# Altium integrated library NSC Switcher.IntLib: 916 symbols (part 6 of 23)
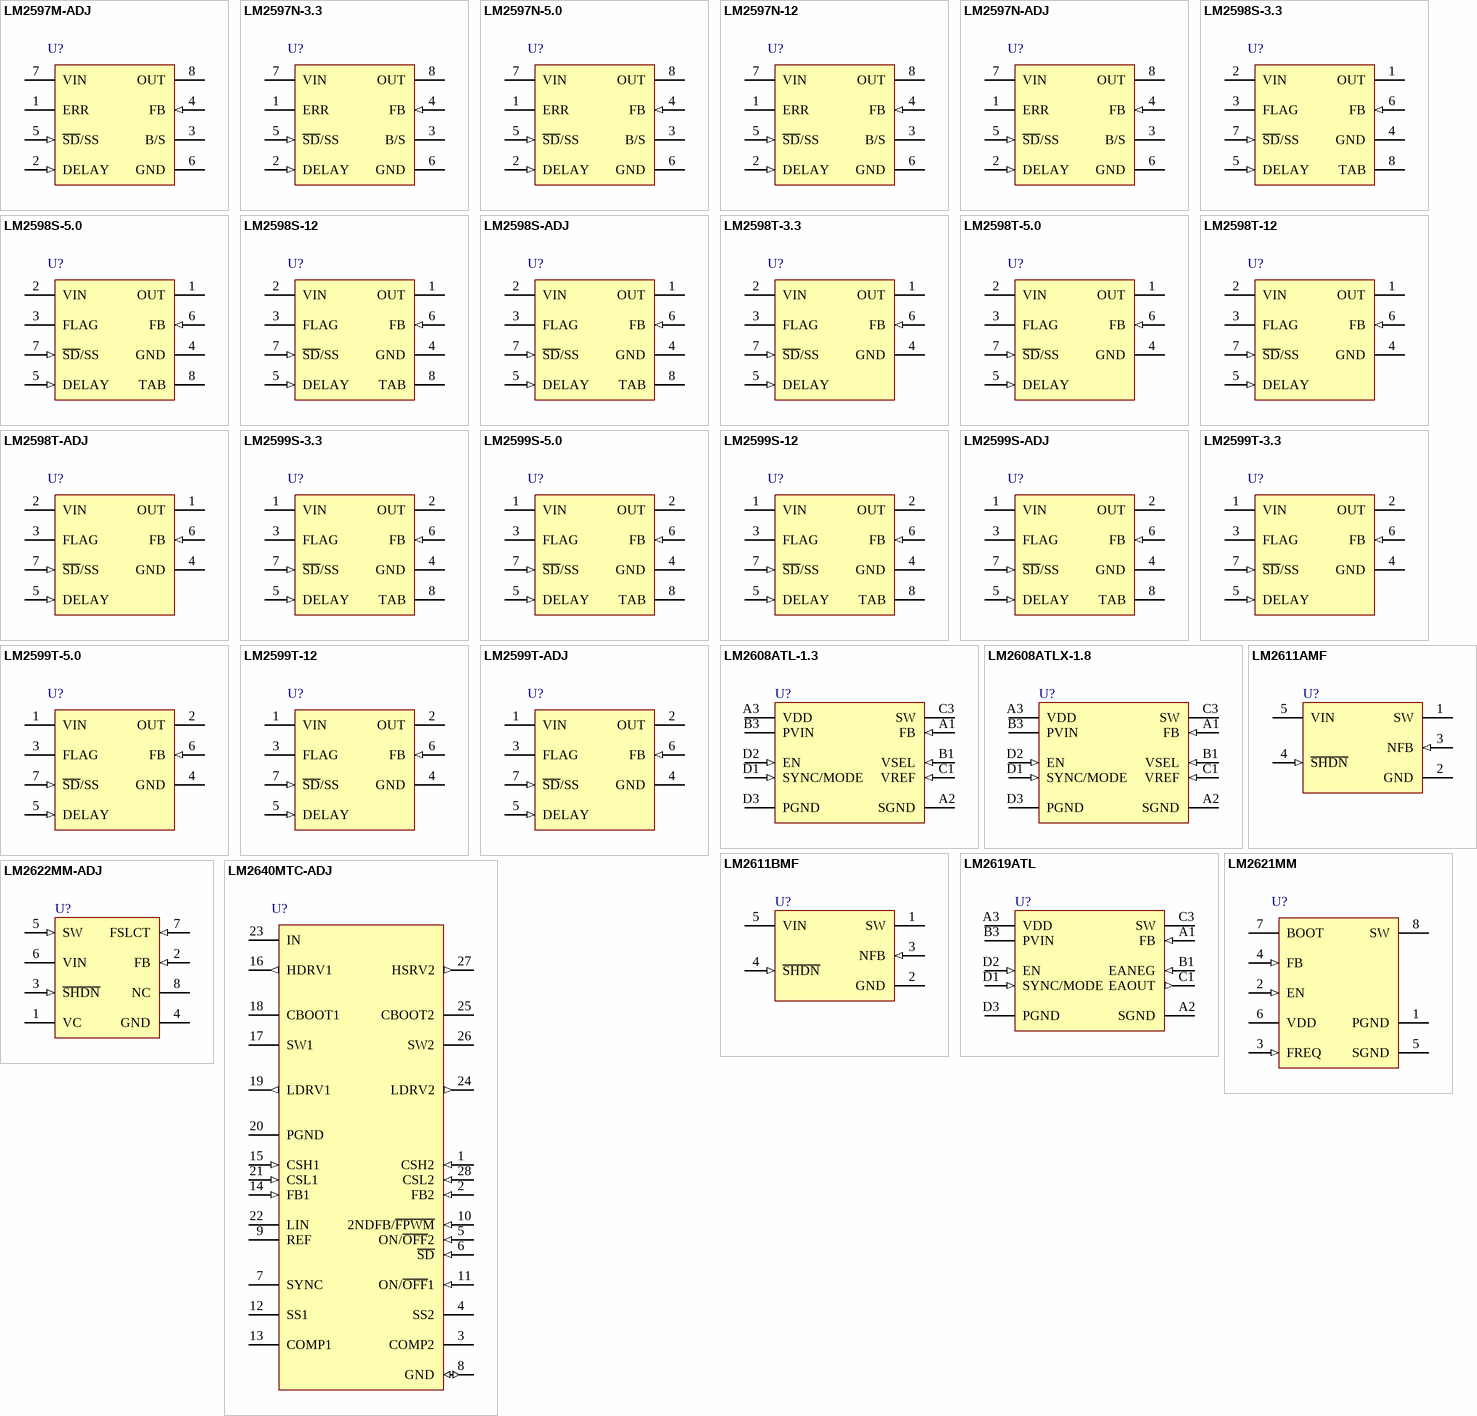
[diagram p33: symbols LM2597M-ADJ to LM2640MTC-ADJ]

## LM2598T-ADJ
designator U?
SIMPLE SWITCHER Power Converter 150 KHz 1A Step-Down Voltage Regulator, with Features; PartNumber: LM2598T-ADJ; Manufacturer: National Semiconductor; PackageTopMarking: NSUZXYTT*LM2598T*-ADJ P+; PowerWise: N; Published: 4-Dec-2008; DatasheetVersion: Jan-2001; PackageVersion: revC, Apr-1999; PackageReference: TA07B; Publisher: Altium Limited; PackageDescription: TO-220, Molded, .400 x .590 x .180in Body, 7 Lead, .050in Pitch, Staggered; CompType: Switcher; RoHS: Y; PinCount: 7; DigiKeyPartNumber: LM2598T-ADJ-ND; Code_JEDEC: TO-220-AB; ComponentLink1Description: LM2598 Datasheet; ComponentLink1URL: http://www.national.com/ds/LM/LM2598.pdf; ComponentLink2Description: LM2598 Web Page; ComponentLink2URL: http://www.national.com/pf/LM/LM2598.html; ComponentLink3Description: TA07B Package Page; ComponentLink3URL: http://www.national.com/packaging/folders/ta07b.html
footprint TA07B (TO, Thru-Hole, Vertical, Heatsink Mounted; 7 Bent Staggered Leads; Pitch 1.27 mm)
pins: 1 OUT (power), 2 VIN (power), 3 FLAG (oc), 4 GND (power), 5 DELAY (in), 6 FB (in), 7 ~{SD}/SS (in)

## LM2599S-3.3
designator U?
SIMPLE SWITCHER Power Converter 150 KHz 3A Step-Down Voltage Regulator with Features; PartNumber: LM2599S-3.3; Manufacturer: National Semiconductor; PackageTopMarking: NSUZXYTT*LM2599S*-3.3 P+; PowerWise: N; Published: 4-Dec-2008; DatasheetVersion: Dec-2000; PackageVersion: revE, Jul-2003; PackageReference: TS7B; Publisher: Altium Limited; PackageDescription: TO-263, Molded, .400 x .390 x .180in Body, 7 Lead, .050in Pitch, Surface Mount; CompType: Switcher; RoHS: O; PinCount: 7; DigiKeyPartNumber: LM2599S-3.3-ND; Code_JEDEC: MO-169-AC; ComponentLink1Description: LM2599 Datasheet; ComponentLink1URL: http://www.national.com/ds/LM/LM2599.pdf; ComponentLink2Description: LM2599 Web Page; ComponentLink2URL: http://www.national.com/pf/LM/LM2599.html; ComponentLink3Description: TS7B Package Page; ComponentLink3URL: http://www.national.com/packaging/folders/ts7b.html
footprint TS7B_N (D2-PAK, 8-Leads, Body 8.6x10.2mm, Pitch 1.27mm, Lead Span 14.1mm, IPC Medium Density)
footprint TS7B_L (D2-PAK, 8-Leads, Body 8.6x10.2mm, Pitch 1.27mm, Lead Span 14.1mm, IPC High Density)
footprint TS7B_M (D2-PAK, 8-Leads, Body 8.6x10.2mm, Pitch 1.27mm, Lead Span 14.1mm, IPC Low Density)
footprint TS7B_M (D2-PAK, 8-Leads, Body 8.6x10.2mm, Pitch 1.27mm, Lead Span 14.1mm, IPC Low Density)
pins: 1 VIN (power), 2 OUT (power), 3 FLAG (oc), 4 GND (power), 5 DELAY (in), 6 FB (in), 7 ~{SD}/SS (in), 8 TAB (power)

## LM2599S-5.0
designator U?
SIMPLE SWITCHER Power Converter 150 KHz 3A Step-Down Voltage Regulator with Features; PartNumber: LM2599S-5.0; Manufacturer: National Semiconductor; PackageTopMarking: NSUZXYTT*LM2599S*-5.0 P+; PowerWise: N; Published: 4-Dec-2008; DatasheetVersion: Dec-2000; PackageVersion: revE, Jul-2003; PackageReference: TS7B; Publisher: Altium Limited; PackageDescription: TO-263, Molded, .400 x .390 x .180in Body, 7 Lead, .050in Pitch, Surface Mount; CompType: Switcher; RoHS: Y; PinCount: 7; DigiKeyPartNumber: LM2599S-5.0-ND; Code_JEDEC: MO-169-AC; ComponentLink1Description: LM2599 Datasheet; ComponentLink1URL: http://www.national.com/ds/LM/LM2599.pdf; ComponentLink2Description: LM2599 Web Page; ComponentLink2URL: http://www.national.com/pf/LM/LM2599.html; ComponentLink3Description: TS7B Package Page; ComponentLink3URL: http://www.national.com/packaging/folders/ts7b.html
footprint TS7B_N (D2-PAK, 8-Leads, Body 8.6x10.2mm, Pitch 1.27mm, Lead Span 14.1mm, IPC Medium Density)
footprint TS7B_L (D2-PAK, 8-Leads, Body 8.6x10.2mm, Pitch 1.27mm, Lead Span 14.1mm, IPC High Density)
footprint TS7B_M (D2-PAK, 8-Leads, Body 8.6x10.2mm, Pitch 1.27mm, Lead Span 14.1mm, IPC Low Density)
footprint TS7B_M (D2-PAK, 8-Leads, Body 8.6x10.2mm, Pitch 1.27mm, Lead Span 14.1mm, IPC Low Density)
pins: 1 VIN (power), 2 OUT (power), 3 FLAG (oc), 4 GND (power), 5 DELAY (in), 6 FB (in), 7 ~{SD}/SS (in), 8 TAB (power)

## LM2599S-12
designator U?
SIMPLE SWITCHER Power Converter 150 KHz 3A Step-Down Voltage Regulator with Features; PartNumber: LM2599S-12; Manufacturer: National Semiconductor; PackageTopMarking: NSUZXYTT*LM2599S*-12 P+; PowerWise: N; Published: 4-Dec-2008; DatasheetVersion: Dec-2000; PackageVersion: revE, Jul-2003; PackageReference: TS7B; Publisher: Altium Limited; PackageDescription: TO-263, Molded, .400 x .390 x .180in Body, 7 Lead, .050in Pitch, Surface Mount; CompType: Switcher; RoHS: O; PinCount: 7; DigiKeyPartNumber: LM2599S-12-ND; Code_JEDEC: MO-169-AC; ComponentLink1Description: LM2599 Datasheet; ComponentLink1URL: http://www.national.com/ds/LM/LM2599.pdf; ComponentLink2Description: LM2599 Web Page; ComponentLink2URL: http://www.national.com/pf/LM/LM2599.html; ComponentLink3Description: TS7B Package Page; ComponentLink3URL: http://www.national.com/packaging/folders/ts7b.html
footprint TS7B_N (D2-PAK, 8-Leads, Body 8.6x10.2mm, Pitch 1.27mm, Lead Span 14.1mm, IPC Medium Density)
footprint TS7B_L (D2-PAK, 8-Leads, Body 8.6x10.2mm, Pitch 1.27mm, Lead Span 14.1mm, IPC High Density)
footprint TS7B_M (D2-PAK, 8-Leads, Body 8.6x10.2mm, Pitch 1.27mm, Lead Span 14.1mm, IPC Low Density)
footprint TS7B_M (D2-PAK, 8-Leads, Body 8.6x10.2mm, Pitch 1.27mm, Lead Span 14.1mm, IPC Low Density)
pins: 1 VIN (power), 2 OUT (power), 3 FLAG (oc), 4 GND (power), 5 DELAY (in), 6 FB (in), 7 ~{SD}/SS (in), 8 TAB (power)

## LM2599S-ADJ
designator U?
SIMPLE SWITCHER Power Converter 150 KHz 3A Step-Down Voltage Regulator with Features; PartNumber: LM2599S-ADJ; Manufacturer: National Semiconductor; PackageTopMarking: NSUZXYTT*LM2599S*-ADJ P+; PowerWise: N; Published: 4-Dec-2008; DatasheetVersion: Dec-2000; PackageVersion: revE, Jul-2003; PackageReference: TS7B; Publisher: Altium Limited; PackageDescription: TO-263, Molded, .400 x .390 x .180in Body, 7 Lead, .050in Pitch, Surface Mount; CompType: Switcher; RoHS: O; PinCount: 7; DigiKeyPartNumber: LM2599S-ADJ-ND; Code_JEDEC: MO-169-AC; ComponentLink1Description: LM2599 Datasheet; ComponentLink1URL: http://www.national.com/ds/LM/LM2599.pdf; ComponentLink2Description: LM2599 Web Page; ComponentLink2URL: http://www.national.com/pf/LM/LM2599.html; ComponentLink3Description: TS7B Package Page; ComponentLink3URL: http://www.national.com/packaging/folders/ts7b.html
footprint TS7B_N (D2-PAK, 8-Leads, Body 8.6x10.2mm, Pitch 1.27mm, Lead Span 14.1mm, IPC Medium Density)
footprint TS7B_L (D2-PAK, 8-Leads, Body 8.6x10.2mm, Pitch 1.27mm, Lead Span 14.1mm, IPC High Density)
footprint TS7B_M (D2-PAK, 8-Leads, Body 8.6x10.2mm, Pitch 1.27mm, Lead Span 14.1mm, IPC Low Density)
footprint TS7B_M (D2-PAK, 8-Leads, Body 8.6x10.2mm, Pitch 1.27mm, Lead Span 14.1mm, IPC Low Density)
pins: 1 VIN (power), 2 OUT (power), 3 FLAG (oc), 4 GND (power), 5 DELAY (in), 6 FB (in), 7 ~{SD}/SS (in), 8 TAB (power)

## LM2599T-3.3
designator U?
SIMPLE SWITCHER Power Converter 150 KHz 3A Step-Down Voltage Regulator with Features; PartNumber: LM2599T-3.3; Manufacturer: National Semiconductor; PackageTopMarking: NSUZXYTT*LM2599T*-3.3 P+; PowerWise: N; Published: 4-Dec-2008; DatasheetVersion: Dec-2000; PackageVersion: revC, Apr-1999; PackageReference: TA07B; Publisher: Altium Limited; PackageDescription: TO-220, Molded, .400 x .590 x .180in Body, 7 Lead, .050in Pitch, Staggered; CompType: Switcher; RoHS: Y; PinCount: 7; DigiKeyPartNumber: LM2599T-3.3-ND; Code_JEDEC: TO-220-AB; ComponentLink1Description: LM2599 Datasheet; ComponentLink1URL: http://www.national.com/ds/LM/LM2599.pdf; ComponentLink2Description: LM2599 Web Page; ComponentLink2URL: http://www.national.com/pf/LM/LM2599.html; ComponentLink3Description: TA07B Package Page; ComponentLink3URL: http://www.national.com/packaging/folders/ta07b.html
footprint TA07B (TO, Thru-Hole, Vertical, Heatsink Mounted; 7 Bent Staggered Leads; Pitch 1.27 mm)
pins: 1 VIN (power), 2 OUT (power), 3 FLAG (oc), 4 GND (power), 5 DELAY (in), 6 FB (in), 7 ~{SD}/SS (in)

## LM2599T-5.0
designator U?
SIMPLE SWITCHER Power Converter 150 KHz 3A Step-Down Voltage Regulator with Features; PartNumber: LM2599T-5.0; Manufacturer: National Semiconductor; PackageTopMarking: NSUZXYTT*LM2599T*-5.0 P+; PowerWise: N; Published: 4-Dec-2008; DatasheetVersion: Dec-2000; PackageVersion: revC, Apr-1999; PackageReference: TA07B; Publisher: Altium Limited; PackageDescription: TO-220, Molded, .400 x .590 x .180in Body, 7 Lead, .050in Pitch, Staggered; CompType: Switcher; RoHS: O; PinCount: 7; DigiKeyPartNumber: LM2599T-5.0-ND; Code_JEDEC: TO-220-AB; ComponentLink1Description: LM2599 Datasheet; ComponentLink1URL: http://www.national.com/ds/LM/LM2599.pdf; ComponentLink2Description: LM2599 Web Page; ComponentLink2URL: http://www.national.com/pf/LM/LM2599.html; ComponentLink3Description: TA07B Package Page; ComponentLink3URL: http://www.national.com/packaging/folders/ta07b.html
footprint TA07B (TO, Thru-Hole, Vertical, Heatsink Mounted; 7 Bent Staggered Leads; Pitch 1.27 mm)
pins: 1 VIN (power), 2 OUT (power), 3 FLAG (oc), 4 GND (power), 5 DELAY (in), 6 FB (in), 7 ~{SD}/SS (in)

## LM2599T-12
designator U?
SIMPLE SWITCHER Power Converter 150 KHz 3A Step-Down Voltage Regulator with Features; PartNumber: LM2599T-12; Manufacturer: National Semiconductor; PackageTopMarking: NSUZXYTT*LM2599T*-12 P+; PowerWise: N; Published: 4-Dec-2008; DatasheetVersion: Dec-2000; PackageVersion: revC, Apr-1999; PackageReference: TA07B; Publisher: Altium Limited; PackageDescription: TO-220, Molded, .400 x .590 x .180in Body, 7 Lead, .050in Pitch, Staggered; CompType: Switcher; RoHS: Y; PinCount: 7; DigiKeyPartNumber: LM2599T-12-ND; Code_JEDEC: TO-220-AB; ComponentLink1Description: LM2599 Datasheet; ComponentLink1URL: http://www.national.com/ds/LM/LM2599.pdf; ComponentLink2Description: LM2599 Web Page; ComponentLink2URL: http://www.national.com/pf/LM/LM2599.html; ComponentLink3Description: TA07B Package Page; ComponentLink3URL: http://www.national.com/packaging/folders/ta07b.html
footprint TA07B (TO, Thru-Hole, Vertical, Heatsink Mounted; 7 Bent Staggered Leads; Pitch 1.27 mm)
pins: 1 VIN (power), 2 OUT (power), 3 FLAG (oc), 4 GND (power), 5 DELAY (in), 6 FB (in), 7 ~{SD}/SS (in)

## LM2599T-ADJ
designator U?
SIMPLE SWITCHER Power Converter 150 KHz 3A Step-Down Voltage Regulator with Features; PartNumber: LM2599T-ADJ; Manufacturer: National Semiconductor; PackageTopMarking: NSUZXYTT*LM2599T*-ADJ P+; PowerWise: N; Published: 4-Dec-2008; DatasheetVersion: Dec-2000; PackageVersion: revC, Apr-1999; PackageReference: TA07B; Publisher: Altium Limited; PackageDescription: TO-220, Molded, .400 x .590 x .180in Body, 7 Lead, .050in Pitch, Staggered; CompType: Switcher; RoHS: O; PinCount: 7; DigiKeyPartNumber: LM2599T-ADJ-ND; Code_JEDEC: TO-220-AB; ComponentLink1Description: LM2599 Datasheet; ComponentLink1URL: http://www.national.com/ds/LM/LM2599.pdf; ComponentLink2Description: LM2599 Web Page; ComponentLink2URL: http://www.national.com/pf/LM/LM2599.html; ComponentLink3Description: TA07B Package Page; ComponentLink3URL: http://www.national.com/packaging/folders/ta07b.html
footprint TA07B (TO, Thru-Hole, Vertical, Heatsink Mounted; 7 Bent Staggered Leads; Pitch 1.27 mm)
pins: 1 VIN (power), 2 OUT (power), 3 FLAG (oc), 4 GND (power), 5 DELAY (in), 6 FB (in), 7 ~{SD}/SS (in)

## LM2608ATL-1.3
designator U?
400mA Sub-miniature, High Efficiency, Programmable DC-DC Converter with Linear Mode; PartNumber: LM2608ATL-1.3; Manufacturer: National Semiconductor; CompType: Switcher; PackageTopMarking: XYTT*I S43A; Published: 4-Dec-2008; DatasheetVersion: Dec-2002; PackageVersion: revD, Mar-2004; PackageReference: TLP108WA; Publisher: Altium Limited; PackageDescription: Thin Micro SMD, 10 Bump (Large), Periperal, 0.5mm Pitch; RoHS: Y; PinCount: 10; DigiKeyPartNumber: LM2608ATL-1.3CT-ND; Code_JEDEC: MO-211-BD; ComponentLink1Description: LM2608 Datasheet; ComponentLink1URL: http://www.national.com/ds/LM/LM2608.pdf; ComponentLink2Description: LM2608 Web Page; ComponentLink2URL: http://www.national.com/pf/LM/LM2608.html; ComponentLink3Description: TLP108WA Package Drawing; ComponentLink3URL: http://www.national.com/packaging/folders/tlp108wa.html
footprint TLP108WA (Micro SMD, 10-Leads, Body 2.5x2.25mm, Pitch 0.5mm, NSC Recommended)
pins: A1 FB (in), A2 SGND (power), A3 VDD (power), B1 VSEL (in), B3 PVIN (power), C1 VREF (in), C3 SW (power), D1 SYNC/MODE (in), D2 EN (in), D3 PGND (power)

## LM2608ATLX-1.8
designator U?
400mA Sub-miniature, High Efficiency, Programmable DC-DC Converter with Linear Mode; PartNumber: LM2608ATLX-1.8; Manufacturer: National Semiconductor; CompType: Switcher; PackageTopMarking: XYTT*I S44A; PowerWise: N; Published: 4-Dec-2008; DatasheetVersion: Dec-2002; PackageVersion: revD, Mar-2004; PackageReference: TLP108WA; Publisher: Altium Limited; PackageDescription: Thin Micro SMD, 10 Bump (Large), Periperal, 0.5mm Pitch; RoHS: Y; PinCount: 10; DigiKeyPartNumber: LM2608ATLX-1.8-ND; Code_JEDEC: MO-211-BD; ComponentLink1Description: LM2608 Datasheet; ComponentLink1URL: http://www.national.com/ds/LM/LM2608.pdf; ComponentLink2Description: LM2608 Web Page; ComponentLink2URL: http://www.national.com/pf/LM/LM2608.html; ComponentLink3Description: TLP108WA Package Drawing; ComponentLink3URL: http://www.national.com/packaging/folders/tlp108wa.html
footprint TLP108WA (Micro SMD, 10-Leads, Body 2.5x2.25mm, Pitch 0.5mm, NSC Recommended)
pins: A1 FB (in), A2 SGND (power), A3 VDD (power), B1 VSEL (in), B3 PVIN (power), C1 VREF (in), C3 SW (power), D1 SYNC/MODE (in), D2 EN (in), D3 PGND (power)

## LM2611AMF
designator U?
1.4MHz Cuk Converter; PartNumber: LM2611AMF; Manufacturer: National Semiconductor; CompType: Switcher; PackageTopMarking: S40A*XTT; PowerWise: N; Published: 4-Dec-2008; DatasheetVersion: Jan-2005; PackageVersion: revD, Aug-2008; PackageReference: MF05A; Publisher: Altium Limited; PackageDescription: Molded SOT-23, .115 x .063 x .040 in Body, 5 Lead, .0375 in Pitch; RoHS: O; PinCount: 5; DigiKeyPartNumber: LM2611AMFCT-ND; ComponentLink1Description: LM2611 Datasheet; ComponentLink1URL: http://www.national.com/ds/LM/LM2611.pdf; ComponentLink2Description: LM2611 Web Page; ComponentLink2URL: http://www.national.com/pf/LM/LM2611.html; ComponentLink3Description: MF05A Package Page; ComponentLink3URL: http://www.national.com/packaging/folders/mf05a.html
footprint MF05A_N (SOT23, 5-Leads, Body 2.9x1.6mm, Pitch 0.95mm, Lead Span 2.8mm, IPC Medium Density)
footprint MF05A_L (SOT23, 5-Leads, Body 2.9x1.6mm, Pitch 0.95mm, Lead Span 2.8mm, IPC High Density)
footprint MF05A_M (SOT23, 5-Leads, Body 2.9x1.6mm, Pitch 0.95mm, Lead Span 2.8mm, IPC Low Density)
pins: 1 SW (power), 2 GND (power), 3 NFB (in), 4 ~{SHDN} (in), 5 VIN (power)

## LM2611BMF
designator U?
1.4MHz Cuk Converter; PartNumber: LM2611BMF; Manufacturer: National Semiconductor; CompType: Switcher; PackageTopMarking: S40B*XTT; PowerWise: N; Published: 4-Dec-2008; DatasheetVersion: Jan-2005; PackageVersion: revD, Aug-2008; PackageReference: MF05A; Publisher: Altium Limited; PackageDescription: Molded SOT-23, .115 x .063 x .040 in Body, 5 Lead, .0375 in Pitch; RoHS: Y; PinCount: 5; DigiKeyPartNumber: LM2611BMFCT-ND; ComponentLink1Description: LM2611 Datasheet; ComponentLink1URL: http://www.national.com/ds/LM/LM2611.pdf; ComponentLink2Description: LM2611 Web Page; ComponentLink2URL: http://www.national.com/pf/LM/LM2611.html; ComponentLink3Description: MF05A Package Page; ComponentLink3URL: http://www.national.com/packaging/folders/mf05a.html
footprint MF05A_N (SOT23, 5-Leads, Body 2.9x1.6mm, Pitch 0.95mm, Lead Span 2.8mm, IPC Medium Density)
footprint MF05A_L (SOT23, 5-Leads, Body 2.9x1.6mm, Pitch 0.95mm, Lead Span 2.8mm, IPC High Density)
footprint MF05A_M (SOT23, 5-Leads, Body 2.9x1.6mm, Pitch 0.95mm, Lead Span 2.8mm, IPC Low Density)
pins: 1 SW (power), 2 GND (power), 3 NFB (in), 4 ~{SHDN} (in), 5 VIN (power)

## LM2619ATL
designator U?
500mA Sub-Miniature Step-Down DC-DC Converter; PartNumber: LM2619ATL; Manufacturer: National Semiconductor; CompType: Switcher; PackageTopMarking: XYTT*I S76A; Published: 4-Dec-2008; DatasheetVersion: Oct-2003; PackageVersion: revD, Mar-2004; PackageReference: TLP108WA; Publisher: Altium Limited; PackageDescription: Thin Micro SMD, 10 Bump (Large), Periperal, 0.5mm Pitch; RoHS: O; PinCount: 10; DigiKeyPartNumber: LM2619ATLCT-ND; Code_JEDEC: MO-211-BD; ComponentLink1Description: LM2619 Datasheet; ComponentLink1URL: http://www.national.com/ds/LM/LM2619.pdf; ComponentLink2Description: LM2619 Web Page; ComponentLink2URL: http://www.national.com/pf/LM/LM2619.html; ComponentLink3Description: TLP108WA Package Drawing; ComponentLink3URL: http://www.national.com/packaging/folders/tlp108wa.html
footprint TLP108WA (Micro SMD, 10-Leads, Body 2.5x2.25mm, Pitch 0.5mm, NSC Recommended)
pins: A1 FB (in), A2 SGND (power), A3 VDD (power), B1 EANEG (in), B3 PVIN (power), C1 EAOUT (out), C3 SW (power), D1 SYNC/MODE (in), D2 EN (in), D3 PGND (power)

## LM2621MM
designator U?
Low Input Voltage, Step-Up DC-DC; PartNumber: LM2621MM; Manufacturer: National Semiconductor; CompType: Switcher; PackageTopMarking: ZXTT*S06A; PowerWise: N; Published: 4-Dec-2008; DatasheetVersion: Mar-2005; PackageVersion: revF, Apr-2008; PackageReference: MUA08A; Publisher: Altium Limited; PackageDescription: MINI SOIC, .118 x .118 x .034in, 8 Lead, .0256in Pitch; RoHS: O; PinCount: 8; DigiKeyPartNumber: LM2621MMCT-ND; Code_JEDEC: MO-187-AA; ComponentLink1Description: LM2621 Datasheet; ComponentLink1URL: http://www.national.com/ds/LM/LM2621.pdf; ComponentLink2Description: LM2621 Web Page; ComponentLink2URL: http://www.national.com/pf/LM/LM2621.html; ComponentLink3Description: MUA08A Package Page; ComponentLink3URL: http://www.national.com/packaging/folders/mua08a.html
footprint MUA08A_N (TSOP, 8-Leads, Body 3x3mm, Pitch 0.65mm, IPC Medium Density)
footprint MUA08A_L (TSOP, 8-Leads, Body 3x3mm, Pitch 0.65mm, IPC High Density)
footprint MUA08A_M (TSOP, 8-Leads, Body 3x3mm, Pitch 0.65mm, IPC Low Density)
pins: 1 PGND (power), 2 EN (in), 3 FREQ (in), 4 FB (in), 5 SGND (power), 6 VDD (power), 7 BOOT, 8 SW (power)

## LM2622MM-ADJ
designator U?
600kHz/1.3MHz Step-up PWM DC/DC Converter; PartNumber: LM2622MM-ADJ; Manufacturer: National Semiconductor; CompType: Switcher; PackageTopMarking: ZXTT*S18B; PowerWise: N; Published: 4-Dec-2008; DatasheetVersion: May-2004; PackageVersion: revF, Apr-2008; PackageReference: MUA08A; Publisher: Altium Limited; PackageDescription: MINI SOIC, .118 x .118 x .034in, 8 Lead, .0256in Pitch; RoHS: Y; PinCount: 8; DigiKeyPartNumber: LM2622MM-ADJCT-ND; Code_JEDEC: MO-187-AA; ComponentLink1Description: LM2622 Datasheet; ComponentLink1URL: http://www.national.com/ds/LM/LM2622.pdf; ComponentLink2Description: LM2622 Web Page; ComponentLink2URL: http://www.national.com/pf/LM/LM2622.html; ComponentLink3Description: MUA08A Package Drawing; ComponentLink3URL: http://www.national.com/packaging/folders/mua08a.html
footprint MUA08A_N (TSOP, 8-Leads, Body 3x3mm, Pitch 0.65mm, IPC Medium Density)
footprint MUA08A_L (TSOP, 8-Leads, Body 3x3mm, Pitch 0.65mm, IPC High Density)
footprint MUA08A_M (TSOP, 8-Leads, Body 3x3mm, Pitch 0.65mm, IPC Low Density)
pins: 1 VC (power), 2 FB (in), 3 ~{SHDN} (in), 4 GND (power), 5 SW (in), 6 VIN (power), 7 FSLCT (in), 8 NC

## LM2640MTC-ADJ
designator U?
Dual Adjustable Step-Down Switching Power Supply Controller; PartNumber: LM2640MTC-ADJ; Manufacturer: National Semiconductor; CompType: Switcher; PackageTopMarking: NSUZXYTT*LM2640M*TC-ADJ; PowerWise: N; Published: 4-Dec-2008; DatasheetVersion: May-2001; PackageVersion: revD, Jan-2005; PackageReference: MTC28; Publisher: Altium Limited; PackageDescription: Molded TSSOP, Jedec, 9.7 x 4.4 x 0.9mm Body, 28 Lead, 0.65mm Pitch; RoHS: Y; PinCount: 28; DigiKeyPartNumber: LM2640MTC-ADJ-ND; Code_JEDEC: MO-153-AE; ComponentLink1Description: LM2640 Datasheet; ComponentLink1URL: http://www.national.com/ds/LM/LM2640.pdf; ComponentLink2Description: LM2640 Web Page; ComponentLink2URL: http://www.national.com/pf/LM/LM2640.html; ComponentLink3Description: MTC28 Package Page; ComponentLink3URL: http://www.national.com/packaging/folders/mtc28.html
footprint MTC28_N (TSOP, 28-Leads, Body 9.7x4.4mm, Pitch 0.65mm, IPC Medium Density)
footprint MTC28_L (TSOP, 28-Leads, Body 9.7x4.4mm, Pitch 0.65mm, IPC High Density)
footprint MTC28_M (TSOP, 28-Leads, Body 9.7x4.4mm, Pitch 0.65mm, IPC Low Density)
pins: 1 CSH2 (in), 2 FB2 (in), 3 COMP2, 4 SS2, 5 ON/~{OFF}2 (in), 6 ~{SD} (in), 7 SYNC, 8 GND (io), 9 REF (power), 10 2NDFB/~{FPWM} (in), 11 ON/~{OFF}1 (in), 12 SS1, 13 COMP1, 14 FB1 (in), 15 CSH1 (in), 16 HDRV1 (out), 17 SW1 (power), 18 CBOOT1, 19 LDRV1 (out), 20 PGND (power), 21 CSL1 (in), 22 LIN (power), 23 IN (power), 24 LDRV2 (out), 25 CBOOT2, 26 SW2 (power), 27 HSRV2 (out), 28 CSL2 (in)

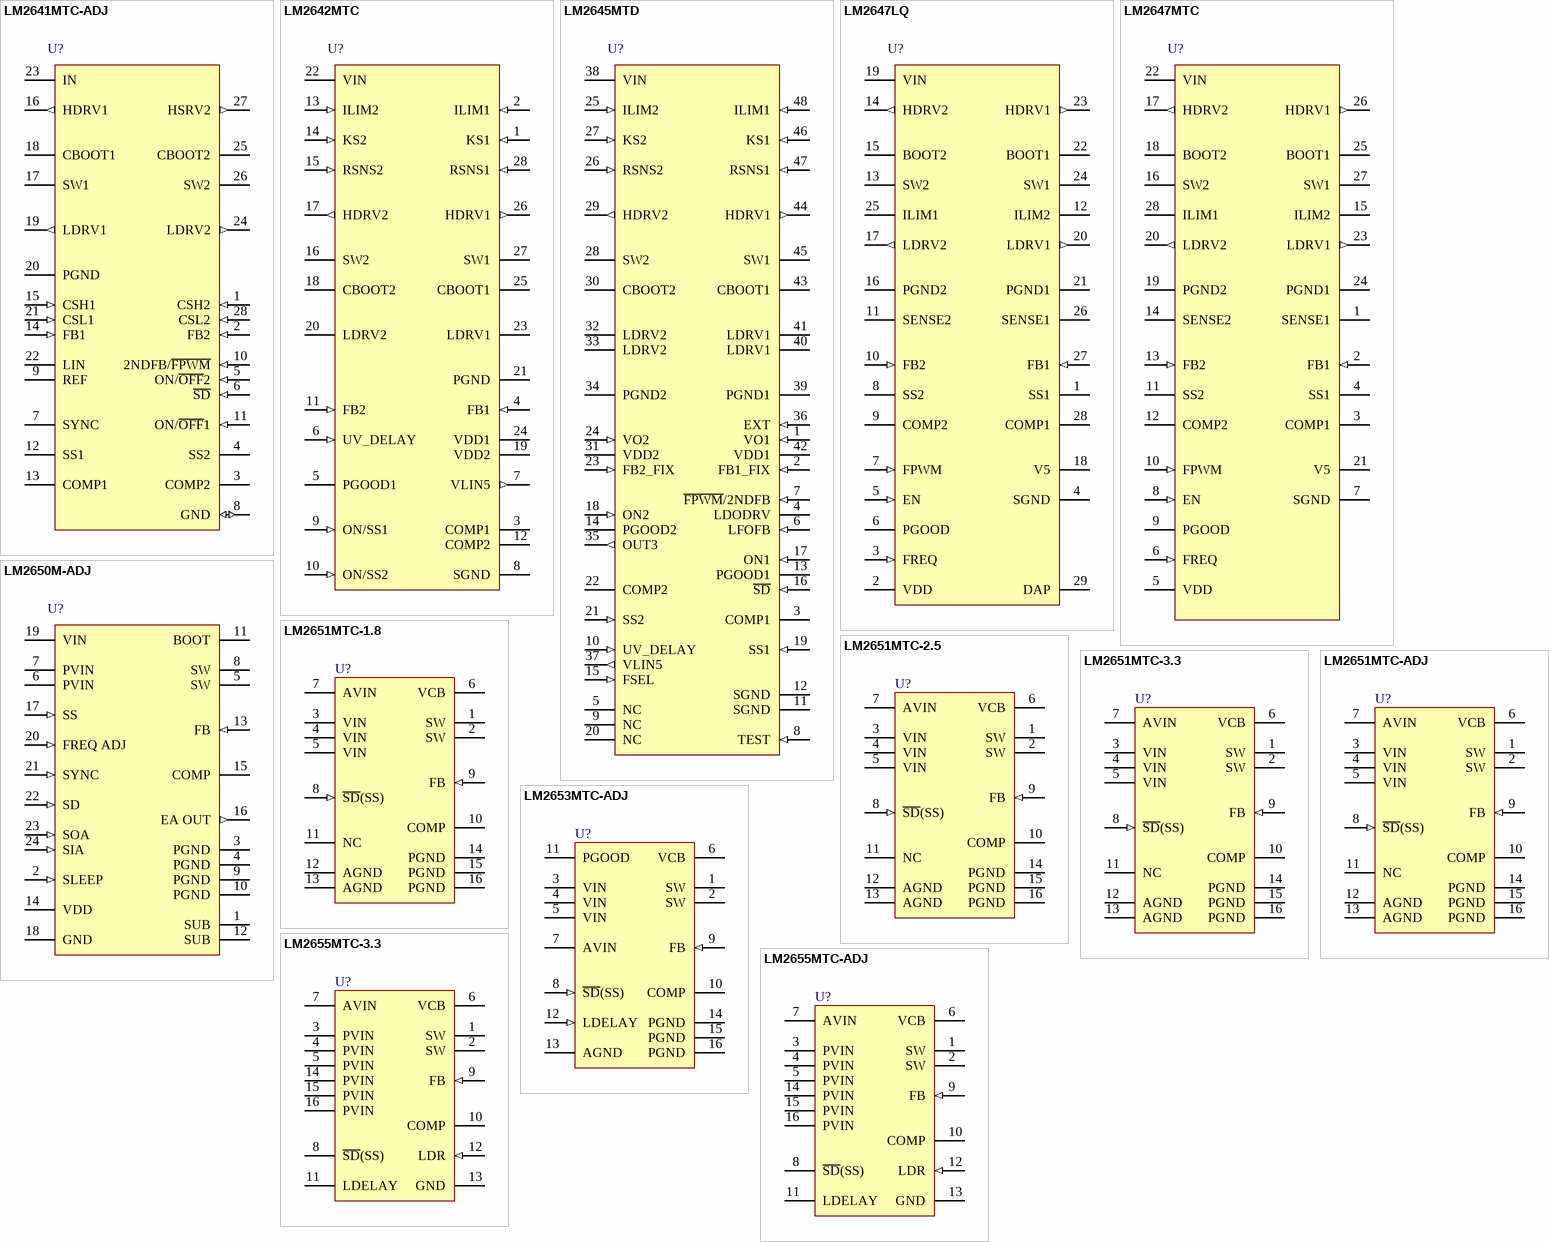
[diagram p6: symbols LM2641MTC-ADJ to LM2655MTC-ADJ]

## LM2641MTC-ADJ
designator U?
Dual Adjustable Step-Down Switching Power Supply Controller; PartNumber: LM2641MTC-ADJ; Manufacturer: National Semiconductor; CompType: Switcher; PackageTopMarking: NSUZXYTT*LM2641M*TC-ADJ; PowerWise: N; Published: 4-Dec-2008; DatasheetVersion: May-2001; PackageVersion: revD, Jan-2005; PackageReference: MTC28; Publisher: Altium Limited; PackageDescription: Molded TSSOP, Jedec, 9.7 x 4.4 x 0.9mm Body, 28 Lead, 0.65mm Pitch; RoHS: O; PinCount: 28; DigiKeyPartNumber: LM2641MTC-ADJ-ND; Code_JEDEC: MO-153-AE; ComponentLink1Description: LM2641 Datasheet; ComponentLink1URL: http://www.national.com/ds/LM/LM2641.pdf; ComponentLink2Description: LM2641 Web Page; ComponentLink2URL: http://www.national.com/pf/LM/LM2641.html; ComponentLink3Description: MTC28 Package Page; ComponentLink3URL: http://www.national.com/packaging/folders/mtc28.html
footprint MTC28_N (TSOP, 28-Leads, Body 9.7x4.4mm, Pitch 0.65mm, IPC Medium Density)
footprint MTC28_L (TSOP, 28-Leads, Body 9.7x4.4mm, Pitch 0.65mm, IPC High Density)
footprint MTC28_M (TSOP, 28-Leads, Body 9.7x4.4mm, Pitch 0.65mm, IPC Low Density)
pins: 1 CSH2 (in), 2 FB2 (in), 3 COMP2, 4 SS2, 5 ON/~{OFF}2 (in), 6 ~{SD} (in), 7 SYNC, 8 GND (io), 9 REF (power), 10 2NDFB/~{FPWM} (in), 11 ON/~{OFF}1 (in), 12 SS1, 13 COMP1, 14 FB1 (in), 15 CSH1 (in), 16 HDRV1 (out), 17 SW1 (power), 18 CBOOT1, 19 LDRV1 (out), 20 PGND (power), 21 CSL1 (in), 22 LIN (power), 23 IN (power), 24 LDRV2 (out), 25 CBOOT2, 26 SW2 (power), 27 HSRV2 (out), 28 CSL2 (in)

## LM2642MTC
designator U?
Two-Phase Synchronous Step-Down Switching Controller; PartNumber: LM2642MTC; Manufacturer: National Semiconductor; CompType: Switcher; PackageTopMarking: NSUZXYTT*LM2642MTC; PowerWise: N; Published: 4-Dec-2008; DatasheetVersion: Feb-2006; PackageVersion: revD, Jan-2005; PackageReference: MTC28; Publisher: Altium Limited; PackageDescription: Molded TSSOP, Jedec, 9.7 x 4.4 x 0.9mm Body, 28 Lead, 0.65mm Pitch; RoHS: O; PinCount: 28; DigiKeyPartNumber: LM2642MTC-ND; Code_JEDEC: MO-153-AE; ComponentLink1Description: LM2642 Datasheet; ComponentLink1URL: http://www.national.com/ds/LM/LM2642.pdf; ComponentLink2Description: LM2642 Web Page; ComponentLink2URL: http://www.national.com/pf/LM/LM2642.html; ComponentLink3Description: MTC28 Package Page; ComponentLink3URL: http://www.national.com/packaging/folders/mtc28.html
footprint MTC28_N (TSOP, 28-Leads, Body 9.7x4.4mm, Pitch 0.65mm, IPC Medium Density)
footprint MTC28_L (TSOP, 28-Leads, Body 9.7x4.4mm, Pitch 0.65mm, IPC High Density)
footprint MTC28_M (TSOP, 28-Leads, Body 9.7x4.4mm, Pitch 0.65mm, IPC Low Density)
pins: 1 KS1 (in), 2 ILIM1 (in), 3 COMP1, 4 FB1 (in), 5 PGOOD1 (oc), 6 UV_DELAY (in), 7 VLIN5 (out), 8 SGND (power), 9 ON/SS1 (in), 10 ON/SS2 (in), 11 FB2 (in), 12 COMP2, 13 ILIM2 (in), 14 KS2 (in), 15 RSNS2 (in), 16 SW2 (power), 17 HDRV2 (out), 18 CBOOT2, 19 VDD2 (power), 20 LDRV2 (power), 21 PGND (power), 22 VIN (power), 23 LDRV1 (power), 24 VDD1 (power), 25 CBOOT1, 26 HDRV1 (out), 27 SW1 (power), 28 RSNS1 (in)

## LM2645MTD
designator U?
Advanced Two-Phase Switching Controller With Two Linear Outputs; PartNumber: LM2645MTD; Manufacturer: National Semiconductor; CompType: Switcher; PackageTopMarking: NSUZXYTT*LM2645MTD; PowerWise: N; Published: 4-Dec-2008; DatasheetVersion: Apr-2005; PackageVersion: revE, Apr-2003; PackageReference: MTD48; Publisher: Altium Limited; PackageDescription: Molded TSSOP, Jedec, 12.5 x 6.1 x 0.9mm Body, 48 Lead, 0.50mm Pitch; RoHS: Y; PinCount: 48; DigiKeyPartNumber: LM2645MTD-ND; Code_JEDEC: MO-153-ED; ComponentLink1Description: LM2645 Datasheet; ComponentLink1URL: http://www.national.com/ds/LM/LM2645.pdf; ComponentLink2Description: LM2645 Web Page; ComponentLink2URL: http://www.national.com/pf/LM/LM2645.html; ComponentLink3Description: MTD48 Package Page; ComponentLink3URL: http://www.national.com/packaging/folders/mtd48.html
footprint MTD48_N (TSSOP, 48-Leads, Body 12.5x6.1mm, Pitch 0.5mm, IPC Medium Density)
footprint MTD48_L (TSSOP, 48-Leads, Body 12.5x6.1mm, Pitch 0.5mm, IPC High Density)
footprint MTD48_M (TSSOP, 48-Leads, Body 12.5x6.1mm, Pitch 0.5mm, IPC Low Density)
pins: 1 VO1 (in), 2 FB1_FIX (in), 3 COMP1, 4 LDODRV (oc), 5 NC, 6 LFOFB (in), 7 ~{FPWM}/2NDFB (in), 8 TEST (in), 9 NC, 10 UV_DELAY (in), 11 SGND (power), 12 SGND (power), 13 PGOOD1 (oc), 14 PGOOD2 (oc), 15 FSEL (in), 16 ~{SD} (in), 17 ON1 (in), 18 ON2 (in), 19 SS1 (in), 20 NC, 21 SS2 (in), 22 COMP2, 23 FB2_FIX (in), 24 VO2 (in), 25 ILIM2 (in), 26 RSNS2 (in), 27 KS2 (in), 28 SW2 (power), 29 HDRV2 (out), 30 CBOOT2, 31 VDD2 (power), 32 LDRV2 (power), 33 LDRV2 (power), 34 PGND2 (power), 35 OUT3 (out), 36 EXT (in), 37 VLIN5 (out), 38 VIN (power), 39 PGND1 (power), 40 LDRV1 (power), 41 LDRV1 (power), 42 VDD1 (power), 43 CBOOT1, 44 HDRV1 (out), 45 SW1 (power), 46 KS1 (in), 47 RSNS1 (in), 48 ILIM1 (in)

## LM2647LQ
designator U?
Dual Synchronous Buck Regulator Controller; PartNumber: LM2647LQ; Manufacturer: National Semiconductor; CompType: Switcher; PackageTopMarking: NS*UZXYTT*LM2647; PowerWise: N; Published: 4-Dec-2008; DatasheetVersion: Jun-2005; PackageVersion: revB, Jul-2001; PackageReference: LQA28A; Publisher: Altium Limited; PackageDescription: LLP, Plastic, Quad, 5 x 5 x 0.75mm Body, 28 Lead, 0.5mm Pitch; RoHS: Y; PinCount: 28; DigiKeyPartNumber: LM2647LQCT-ND; Code_JEDEC: MO-220-WHHD-1; ComponentLink1Description: LM2647 Datasheet; ComponentLink1URL: http://www.national.com/ds/LM/LM2647.pdf; ComponentLink2Description: LM2647 Web Page; ComponentLink2URL: http://www.national.com/pf/LM/LM2647.html; ComponentLink3Description: LQA28A Package Page; ComponentLink3URL: http://www.national.com/packaging/folders/lqa28a.html
footprint LQA28A (PQFN, 28-Leads, Body 5x5mm, Pitch 0.5mm, NSC Recommended)
pins: 1 SS1, 2 VDD (power), 3 FREQ (in), 4 SGND (power), 5 EN (in), 6 PGOOD (oc), 7 FPWM (in), 8 SS2, 9 COMP2, 10 FB2 (in), 11 SENSE2, 12 ILIM2, 13 SW2 (power), 14 HDRV2 (out), 15 BOOT2, 16 PGND2 (power), 17 LDRV2 (out), 18 V5 (power), 19 VIN (power), 20 LDRV1 (out), 21 PGND1 (power), 22 BOOT1, 23 HDRV1 (out), 24 SW1 (power), 25 ILIM1, 26 SENSE1, 27 FB1 (in), 28 COMP1, 29 DAP (power)

## LM2647MTC
designator U?
Dual Synchronous Buck Regulator Controller; PartNumber: LM2647MTC; Manufacturer: National Semiconductor; CompType: Switcher; PackageTopMarking: NSUZXYTT*LM2647*MTC; PowerWise: N; Published: 4-Dec-2008; DatasheetVersion: Jun-2005; PackageVersion: revD, Jan-2005; PackageReference: MTC28; Publisher: Altium Limited; PackageDescription: Molded TSSOP, Jedec, 9.7 x 4.4 x 0.9mm Body, 28 Lead, 0.65mm Pitch; RoHS: Y; PinCount: 28; DigiKeyPartNumber: LM2647MTC-ND; Code_JEDEC: MO-153-AE; ComponentLink1Description: LM2647 Datasheet; ComponentLink1URL: http://www.national.com/ds/LM/LM2647.pdf; ComponentLink2Description: LM2647 Web Page; ComponentLink2URL: http://www.national.com/pf/LM/LM2647.html; ComponentLink3Description: MTC28 Package Page; ComponentLink3URL: http://www.national.com/packaging/folders/mtc28.html
footprint MTC28_N (TSOP, 28-Leads, Body 9.7x4.4mm, Pitch 0.65mm, IPC Medium Density)
footprint MTC28_L (TSOP, 28-Leads, Body 9.7x4.4mm, Pitch 0.65mm, IPC High Density)
footprint MTC28_M (TSOP, 28-Leads, Body 9.7x4.4mm, Pitch 0.65mm, IPC Low Density)
pins: 1 SENSE1, 2 FB1 (in), 3 COMP1, 4 SS1, 5 VDD (power), 6 FREQ (in), 7 SGND (power), 8 EN (in), 9 PGOOD (oc), 10 FPWM (in), 11 SS2, 12 COMP2, 13 FB2 (in), 14 SENSE2, 15 ILIM2, 16 SW2 (power), 17 HDRV2 (out), 18 BOOT2, 19 PGND2 (power), 20 LDRV2 (out), 21 V5 (power), 22 VIN (power), 23 LDRV1 (out), 24 PGND1 (power), 25 BOOT1, 26 HDRV1 (out), 27 SW1 (power), 28 ILIM1

## LM2650M-ADJ
designator U?
Synchronous Step-Down DC/DC Converter; PartNumber: LM2650M-ADJ; Manufacturer: National Semiconductor; CompType: Switcher; PackageTopMarking: NSUZXYTT*LM2650M*-ADJ; PowerWise: N; Published: 4-Dec-2008; DatasheetVersion: Nov-2005; PackageVersion: revF, Apr-1990; PackageReference: M24B; Publisher: Altium Limited; PackageDescription: Molded Package, S.O., .300in Wide, 24 Lead; RoHS: O; PinCount: 24; DigiKeyPartNumber: LM2650M-ADJ-ND; ComponentLink1Description: LM2650 Datasheet; ComponentLink1URL: http://www.national.com/ds/LM/LM2650.pdf; ComponentLink2Description: LM2650 Web Page; ComponentLink2URL: http://www.national.com/pf/LM/LM2650.html; ComponentLink3Description: M24B Package Page; ComponentLink3URL: http://www.national.com/packaging/folders/m24b.html
footprint M24B_N (SOIC, 24-Leads, Body 15.4x7.5mm, Pitch 1.27mm, IPC Medium Density)
footprint M24B_L (SOIC, 24-Leads, Body 15.4x7.5mm, Pitch 1.27mm, IPC High Density)
footprint M24B_M (SOIC, 24-Leads, Body 15.4x7.5mm, Pitch 1.27mm, IPC Low Density)
pins: 1 SUB (power), 2 SLEEP (in), 3 PGND (power), 4 PGND (power), 5 SW (power), 6 PVIN (power), 7 PVIN (power), 8 SW (power), 9 PGND (power), 10 PGND (power), 11 BOOT, 12 SUB (power), 13 FB (in), 14 VDD (power), 15 COMP, 16 EA OUT (out), 17 SS (in), 18 GND (power), 19 VIN (power), 20 FREQ ADJ (in), 21 SYNC (in), 22 SD (in), 23 SOA (in), 24 SIA (in)

## LM2651MTC-1.8
designator U?
1.5A High Efficiency Switching Regulator; PartNumber: LM2651MTC-1.8; Manufacturer: National Semiconductor; CompType: Switcher; PackageTopMarking: NSZXYTT*2651MTC*-1.8; PowerWise: N; Published: 4-Dec-2008; DatasheetVersion: Apr-2005; PackageVersion: revD, Jun-2003; PackageReference: MTC16; Publisher: Altium Limited; PackageDescription: Molded TSSOP, Jedec, 5 x 4.4 x 0.9mm Body, 16 Lead, 0.65mm Pitch; RoHS: Y; PinCount: 16; DigiKeyPartNumber: LM2651MTC-1.8-ND; Code_JEDEC: MO-153-AB; ComponentLink1Description: LM2651 Datasheet; ComponentLink1URL: http://www.national.com/ds/LM/LM2651.pdf; ComponentLink2Description: LM2651 Web Page; ComponentLink2URL: http://www.national.com/pf/LM/LM2651.html; ComponentLink3Description: MTC16 Package Page; ComponentLink3URL: http://www.national.com/packaging/folders/mtc16.html
footprint MTC16_N (TSOP, 16-Leads, Body 5x4.4mm, Pitch 0.65mm, IPC Medium Density)
footprint MTC16_L (TSOP, 16-Leads, Body 5x4.4mm, Pitch 0.65mm, IPC High Density)
footprint MTC16_M (TSOP, 16-Leads, Body 5x4.4mm, Pitch 0.65mm, IPC Low Density)
pins: 1 SW (power), 2 SW (power), 3 VIN (power), 4 VIN (power), 5 VIN (power), 6 VCB, 7 AVIN (power), 8 ~{SD}(SS) (in), 9 FB (in), 10 COMP, 11 NC, 12 AGND (power), 13 AGND (power), 14 PGND (power), 15 PGND (power), 16 PGND (power)

## LM2651MTC-2.5
designator U?
1.5A High Efficiency Switching Regulator; PartNumber: LM2651MTC-2.5; Manufacturer: National Semiconductor; CompType: Switcher; PackageTopMarking: NSZXYTT*2651MTC*-2.5; PowerWise: N; Published: 4-Dec-2008; DatasheetVersion: Apr-2005; PackageVersion: revD, Jun-2003; PackageReference: MTC16; Publisher: Altium Limited; PackageDescription: Molded TSSOP, Jedec, 5 x 4.4 x 0.9mm Body, 16 Lead, 0.65mm Pitch; RoHS: O; PinCount: 16; DigiKeyPartNumber: LM2651MTC-2.5-ND; Code_JEDEC: MO-153-AB; ComponentLink1Description: LM2651 Datasheet; ComponentLink1URL: http://www.national.com/ds/LM/LM2651.pdf; ComponentLink2Description: LM2651 Web Page; ComponentLink2URL: http://www.national.com/pf/LM/LM2651.html; ComponentLink3Description: MTC16 Package Page; ComponentLink3URL: http://www.national.com/packaging/folders/mtc16.html
footprint MTC16_N (TSOP, 16-Leads, Body 5x4.4mm, Pitch 0.65mm, IPC Medium Density)
footprint MTC16_L (TSOP, 16-Leads, Body 5x4.4mm, Pitch 0.65mm, IPC High Density)
footprint MTC16_M (TSOP, 16-Leads, Body 5x4.4mm, Pitch 0.65mm, IPC Low Density)
pins: 1 SW (power), 2 SW (power), 3 VIN (power), 4 VIN (power), 5 VIN (power), 6 VCB, 7 AVIN (power), 8 ~{SD}(SS) (in), 9 FB (in), 10 COMP, 11 NC, 12 AGND (power), 13 AGND (power), 14 PGND (power), 15 PGND (power), 16 PGND (power)

## LM2651MTC-3.3
designator U?
1.5A High Efficiency Switching Regulator; PartNumber: LM2651MTC-3.3; Manufacturer: National Semiconductor; CompType: Switcher; PackageTopMarking: NSZXYTT*2651MTC*-3.3; PowerWise: N; Published: 4-Dec-2008; DatasheetVersion: Apr-2005; PackageVersion: revD, Jun-2003; PackageReference: MTC16; Publisher: Altium Limited; PackageDescription: Molded TSSOP, Jedec, 5 x 4.4 x 0.9mm Body, 16 Lead, 0.65mm Pitch; RoHS: O; PinCount: 16; DigiKeyPartNumber: LM2651MTC-3.3-ND; Code_JEDEC: MO-153-AB; ComponentLink1Description: LM2651 Datasheet; ComponentLink1URL: http://www.national.com/ds/LM/LM2651.pdf; ComponentLink2Description: LM2651 Web Page; ComponentLink2URL: http://www.national.com/pf/LM/LM2651.html; ComponentLink3Description: MTC16 Package Page; ComponentLink3URL: http://www.national.com/packaging/folders/mtc16.html
footprint MTC16_N (TSOP, 16-Leads, Body 5x4.4mm, Pitch 0.65mm, IPC Medium Density)
footprint MTC16_L (TSOP, 16-Leads, Body 5x4.4mm, Pitch 0.65mm, IPC High Density)
footprint MTC16_M (TSOP, 16-Leads, Body 5x4.4mm, Pitch 0.65mm, IPC Low Density)
pins: 1 SW (power), 2 SW (power), 3 VIN (power), 4 VIN (power), 5 VIN (power), 6 VCB, 7 AVIN (power), 8 ~{SD}(SS) (in), 9 FB (in), 10 COMP, 11 NC, 12 AGND (power), 13 AGND (power), 14 PGND (power), 15 PGND (power), 16 PGND (power)

## LM2651MTC-ADJ
designator U?
1.5A High Efficiency Switching Regulator; PartNumber: LM2651MTC-ADJ; Manufacturer: National Semiconductor; CompType: Switcher; PackageTopMarking: NSZXYTT*2651MTC*-ADJ; PowerWise: N; Published: 4-Dec-2008; DatasheetVersion: Apr-2005; PackageVersion: revD, Jun-2003; PackageReference: MTC16; Publisher: Altium Limited; PackageDescription: Molded TSSOP, Jedec, 5 x 4.4 x 0.9mm Body, 16 Lead, 0.65mm Pitch; RoHS: Y; PinCount: 16; DigiKeyPartNumber: LM2651MTC-ADJ-ND; Code_JEDEC: MO-153-AB; ComponentLink1Description: LM2651 Datasheet; ComponentLink1URL: http://www.national.com/ds/LM/LM2651.pdf; ComponentLink2Description: LM2651 Web Page; ComponentLink2URL: http://www.national.com/pf/LM/LM2651.html; ComponentLink3Description: MTC16 Package Page; ComponentLink3URL: http://www.national.com/packaging/folders/mtc16.html
footprint MTC16_N (TSOP, 16-Leads, Body 5x4.4mm, Pitch 0.65mm, IPC Medium Density)
footprint MTC16_L (TSOP, 16-Leads, Body 5x4.4mm, Pitch 0.65mm, IPC High Density)
footprint MTC16_M (TSOP, 16-Leads, Body 5x4.4mm, Pitch 0.65mm, IPC Low Density)
pins: 1 SW (power), 2 SW (power), 3 VIN (power), 4 VIN (power), 5 VIN (power), 6 VCB, 7 AVIN (power), 8 ~{SD}(SS) (in), 9 FB (in), 10 COMP, 11 NC, 12 AGND (power), 13 AGND (power), 14 PGND (power), 15 PGND (power), 16 PGND (power)

## LM2653MTC-ADJ
designator U?
1.5A High Efficiency Synchronous Switching Regulator; PartNumber: LM2653MTC-ADJ; Manufacturer: National Semiconductor; CompType: Switcher; PackageTopMarking: NSZXYTT*2653MT*C-ADJ; PowerWise: N; Published: 4-Dec-2008; DatasheetVersion: Apr-2005; PackageVersion: revD, Jun-2003; PackageReference: MTC16; Publisher: Altium Limited; PackageDescription: Molded TSSOP, Jedec, 5 x 4.4 x 0.9mm Body, 16 Lead, 0.65mm Pitch; RoHS: Y; PinCount: 16; DigiKeyPartNumber: LM2653MTC-ADJ-ND; Code_JEDEC: MO-153-AB; ComponentLink1Description: LM2653 Datasheet; ComponentLink1URL: http://www.national.com/ds/LM/LM2653.pdf; ComponentLink2Description: LM2653 Web Page; ComponentLink2URL: http://www.national.com/pf/LM/LM2653.html; ComponentLink3Description: MTC16 Package Page; ComponentLink3URL: http://www.national.com/packaging/folders/mtc16.html
footprint MTC16_N (TSOP, 16-Leads, Body 5x4.4mm, Pitch 0.65mm, IPC Medium Density)
footprint MTC16_L (TSOP, 16-Leads, Body 5x4.4mm, Pitch 0.65mm, IPC High Density)
footprint MTC16_M (TSOP, 16-Leads, Body 5x4.4mm, Pitch 0.65mm, IPC Low Density)
pins: 1 SW (power), 2 SW (power), 3 VIN (power), 4 VIN (power), 5 VIN (power), 6 VCB, 7 AVIN (power), 8 ~{SD}(SS) (in), 9 FB (in), 10 COMP, 11 PGOOD (oc), 12 LDELAY (in), 13 AGND (power), 14 PGND (power), 15 PGND (power), 16 PGND (power)

## LM2655MTC-3.3
designator U?
2.5A High Efficiency Synchronous Switching Regulator; PartNumber: LM2655MTC-3.3; Manufacturer: National Semiconductor; CompType: Switcher; PackageTopMarking: NSZXYTT*2655MTC*-3.3; PowerWise: N; Published: 4-Dec-2008; DatasheetVersion: Apr-2005; PackageVersion: revD, Jun-2003; PackageReference: MTC16; Publisher: Altium Limited; PackageDescription: Molded TSSOP, Jedec, 5 x 4.4 x 0.9mm Body, 16 Lead, 0.65mm Pitch; RoHS: O; PinCount: 16; DigiKeyPartNumber: LM2655MTC-3.3-ND; Code_JEDEC: MO-153-AB; ComponentLink1Description: LM2655 Datasheet; ComponentLink1URL: http://www.national.com/ds/LM/LM2655.pdf; ComponentLink2Description: LM2655 Web Page; ComponentLink2URL: http://www.national.com/pf/LM/LM2655.html; ComponentLink3Description: MTC16 Package Page; ComponentLink3URL: http://www.national.com/packaging/folders/mtc16.html
footprint MTC16_N (TSOP, 16-Leads, Body 5x4.4mm, Pitch 0.65mm, IPC Medium Density)
footprint MTC16_L (TSOP, 16-Leads, Body 5x4.4mm, Pitch 0.65mm, IPC High Density)
footprint MTC16_M (TSOP, 16-Leads, Body 5x4.4mm, Pitch 0.65mm, IPC Low Density)
pins: 1 SW (power), 2 SW (power), 3 PVIN (power), 4 PVIN (power), 5 PVIN (power), 6 VCB, 7 AVIN (power), 8 ~{SD}(SS), 9 FB (in), 10 COMP, 11 LDELAY, 12 LDR (in), 13 GND (power), 14 PVIN (power), 15 PVIN (power), 16 PVIN (power)

## LM2655MTC-ADJ
designator U?
2.5A High Efficiency Synchronous Switching Regulator; PartNumber: LM2655MTC-ADJ; Manufacturer: National Semiconductor; CompType: Switcher; PackageTopMarking: NSZXYTT*2655MTC*-ADJ; PowerWise: N; Published: 4-Dec-2008; DatasheetVersion: Apr-2005; PackageVersion: revD, Jun-2003; PackageReference: MTC16; Publisher: Altium Limited; PackageDescription: Molded TSSOP, Jedec, 5 x 4.4 x 0.9mm Body, 16 Lead, 0.65mm Pitch; RoHS: O; PinCount: 16; DigiKeyPartNumber: LM2655MTC-ADJ-ND; Code_JEDEC: MO-153-AB; ComponentLink1Description: LM2655 Datasheet; ComponentLink1URL: http://www.national.com/ds/LM/LM2655.pdf; ComponentLink2Description: LM2655 Web Page; ComponentLink2URL: http://www.national.com/pf/LM/LM2655.html; ComponentLink3Description: MTC16 Package Page; ComponentLink3URL: http://www.national.com/packaging/folders/mtc16.html
footprint MTC16_N (TSOP, 16-Leads, Body 5x4.4mm, Pitch 0.65mm, IPC Medium Density)
footprint MTC16_L (TSOP, 16-Leads, Body 5x4.4mm, Pitch 0.65mm, IPC High Density)
footprint MTC16_M (TSOP, 16-Leads, Body 5x4.4mm, Pitch 0.65mm, IPC Low Density)
pins: 1 SW (power), 2 SW (power), 3 PVIN (power), 4 PVIN (power), 5 PVIN (power), 6 VCB, 7 AVIN (power), 8 ~{SD}(SS), 9 FB (in), 10 COMP, 11 LDELAY, 12 LDR (in), 13 GND (power), 14 PVIN (power), 15 PVIN (power), 16 PVIN (power)

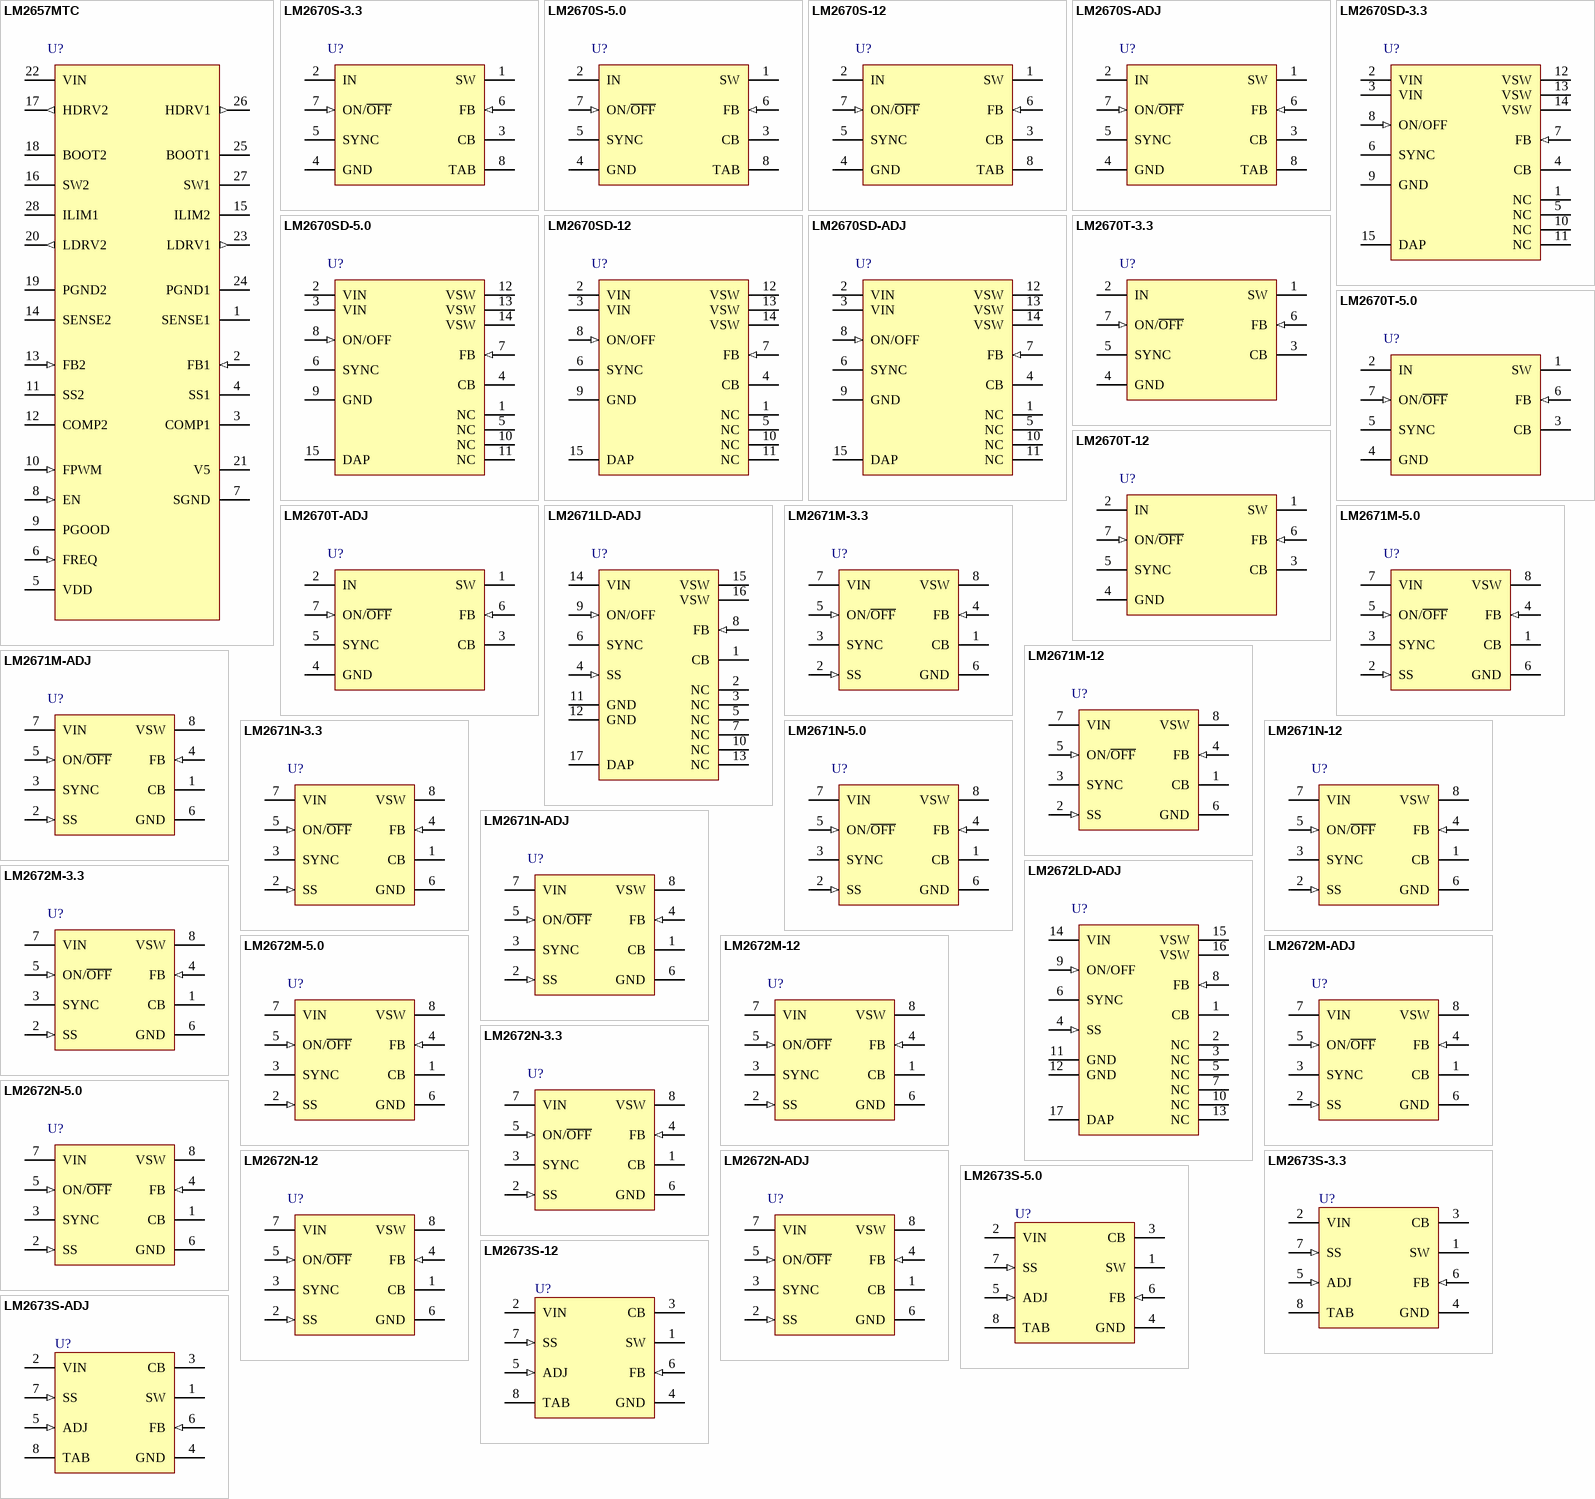
[diagram p7: symbols LM2657MTC to LM2673S-ADJ]

## LM2657MTC
designator U?
Dual Synchronous Buck Regulator Controller; PartNumber: LM2657MTC; Manufacturer: National Semiconductor; CompType: Switcher; PackageTopMarking: NSUZXYTT*LM2657*MTC; PowerWise: N; Published: 4-Dec-2008; DatasheetVersion: Mar-2005; PackageVersion: revD, Jan-2005; PackageReference: MTC28; Publisher: Altium Limited; PackageDescription: Molded TSSOP, Jedec, 9.7 x 4.4 x 0.9mm Body, 28 Lead, 0.65mm Pitch; RoHS: Y; PinCount: 28; DigiKeyPartNumber: LM2657MTC-ND; Code_JEDEC: MO-153-AE; ComponentLink1Description: LM2657 Datasheet; ComponentLink1URL: http://www.national.com/ds/LM/LM2657.pdf; ComponentLink2Description: LM2657 Web Page; ComponentLink2URL: http://www.national.com/pf/LM/LM2657.html; ComponentLink3Description: MTC28 Package Page; ComponentLink3URL: http://www.national.com/packaging/folders/mtc28.html
footprint MTC28_N (TSOP, 28-Leads, Body 9.7x4.4mm, Pitch 0.65mm, IPC Medium Density)
footprint MTC28_L (TSOP, 28-Leads, Body 9.7x4.4mm, Pitch 0.65mm, IPC High Density)
footprint MTC28_M (TSOP, 28-Leads, Body 9.7x4.4mm, Pitch 0.65mm, IPC Low Density)
pins: 1 SENSE1, 2 FB1 (in), 3 COMP1, 4 SS1, 5 VDD (power), 6 FREQ (in), 7 SGND (power), 8 EN (in), 9 PGOOD (oc), 10 FPWM (in), 11 SS2, 12 COMP2, 13 FB2 (in), 14 SENSE2, 15 ILIM2, 16 SW2 (power), 17 HDRV2 (out), 18 BOOT2, 19 PGND2 (power), 20 LDRV2 (out), 21 V5 (power), 22 VIN (power), 23 LDRV1 (out), 24 PGND1 (power), 25 BOOT1, 26 HDRV1 (out), 27 SW1 (power), 28 ILIM1

## LM2670S-3.3
designator U?
SIMPLE SWITCHER High Efficiency 3A Step-Down Voltage Regulator with Sync; PartNumber: LM2670S-3.3; Manufacturer: National Semiconductor; PackageTopMarking: NSUZXYTT*LM2670*S-3.3; PowerWise: N; Published: 4-Dec-2008; DatasheetVersion: Feb-2008; PackageVersion: revE, Jul-2003; PackageReference: TS7B; Publisher: Altium Limited; PackageDescription: TO-263, Molded, .400 x .390 x .180in Body, 7 Lead, .050in Pitch, Surface Mount; CompType: Switcher; RoHS: Y; PinCount: 7; DigiKeyPartNumber: LM2670S-3.3-ND; Code_JEDEC: MO-169-AC; ComponentLink1Description: LM2670 Datasheet; ComponentLink1URL: http://www.national.com/ds/LM/LM2670.pdf; ComponentLink2Description: LM2670 Web Page; ComponentLink2URL: http://www.national.com/pf/LM/LM2670.html; ComponentLink3Description: TS7B Package Page; ComponentLink3URL: http://www.national.com/packaging/folders/ts7b.html
footprint TS7B_N (D2-PAK, 8-Leads, Body 8.6x10.2mm, Pitch 1.27mm, Lead Span 14.1mm, IPC Medium Density)
footprint TS7B_L (D2-PAK, 8-Leads, Body 8.6x10.2mm, Pitch 1.27mm, Lead Span 14.1mm, IPC High Density)
footprint TS7B_M (D2-PAK, 8-Leads, Body 8.6x10.2mm, Pitch 1.27mm, Lead Span 14.1mm, IPC Low Density)
footprint TS7B_M (D2-PAK, 8-Leads, Body 8.6x10.2mm, Pitch 1.27mm, Lead Span 14.1mm, IPC Low Density)
pins: 1 SW (power), 2 IN (power), 3 CB, 4 GND (power), 5 SYNC, 6 FB (in), 7 ON/~{OFF} (in), 8 TAB

## LM2670S-5.0
designator U?
SIMPLE SWITCHER High Efficiency 3A Step-Down Voltage Regulator with Sync; PartNumber: LM2670S-5.0; Manufacturer: National Semiconductor; PackageTopMarking: NSUZXYTT*LM2670*S-5.0; PowerWise: N; Published: 4-Dec-2008; DatasheetVersion: Feb-2008; PackageVersion: revE, Jul-2003; PackageReference: TS7B; Publisher: Altium Limited; PackageDescription: TO-263, Molded, .400 x .390 x .180in Body, 7 Lead, .050in Pitch, Surface Mount; CompType: Switcher; RoHS: O; PinCount: 7; DigiKeyPartNumber: LM2670S-5.0-ND; Code_JEDEC: MO-169-AC; ComponentLink1Description: LM2670 Datasheet; ComponentLink1URL: http://www.national.com/ds/LM/LM2670.pdf; ComponentLink2Description: LM2670 Web Page; ComponentLink2URL: http://www.national.com/pf/LM/LM2670.html; ComponentLink3Description: TS7B Package Page; ComponentLink3URL: http://www.national.com/packaging/folders/ts7b.html
footprint TS7B_N (D2-PAK, 8-Leads, Body 8.6x10.2mm, Pitch 1.27mm, Lead Span 14.1mm, IPC Medium Density)
footprint TS7B_L (D2-PAK, 8-Leads, Body 8.6x10.2mm, Pitch 1.27mm, Lead Span 14.1mm, IPC High Density)
footprint TS7B_M (D2-PAK, 8-Leads, Body 8.6x10.2mm, Pitch 1.27mm, Lead Span 14.1mm, IPC Low Density)
footprint TS7B_M (D2-PAK, 8-Leads, Body 8.6x10.2mm, Pitch 1.27mm, Lead Span 14.1mm, IPC Low Density)
pins: 1 SW (power), 2 IN (power), 3 CB, 4 GND (power), 5 SYNC, 6 FB (in), 7 ON/~{OFF} (in), 8 TAB

## LM2670S-12
designator U?
SIMPLE SWITCHER High Efficiency 3A Step-Down Voltage Regulator with Sync; PartNumber: LM2670S-12; Manufacturer: National Semiconductor; PackageTopMarking: NSUZXYTT*LM2670*S-12; PowerWise: N; Published: 4-Dec-2008; DatasheetVersion: Feb-2008; PackageVersion: revE, Jul-2003; PackageReference: TS7B; Publisher: Altium Limited; PackageDescription: TO-263, Molded, .400 x .390 x .180in Body, 7 Lead, .050in Pitch, Surface Mount; CompType: Switcher; RoHS: Y; PinCount: 7; DigiKeyPartNumber: LM2670S-12-ND; Code_JEDEC: MO-169-AC; ComponentLink1Description: LM2670 Datasheet; ComponentLink1URL: http://www.national.com/ds/LM/LM2670.pdf; ComponentLink2Description: LM2670 Web Page; ComponentLink2URL: http://www.national.com/pf/LM/LM2670.html; ComponentLink3Description: TS7B Package Page; ComponentLink3URL: http://www.national.com/packaging/folders/ts7b.html
footprint TS7B_N (D2-PAK, 8-Leads, Body 8.6x10.2mm, Pitch 1.27mm, Lead Span 14.1mm, IPC Medium Density)
footprint TS7B_L (D2-PAK, 8-Leads, Body 8.6x10.2mm, Pitch 1.27mm, Lead Span 14.1mm, IPC High Density)
footprint TS7B_M (D2-PAK, 8-Leads, Body 8.6x10.2mm, Pitch 1.27mm, Lead Span 14.1mm, IPC Low Density)
footprint TS7B_M (D2-PAK, 8-Leads, Body 8.6x10.2mm, Pitch 1.27mm, Lead Span 14.1mm, IPC Low Density)
pins: 1 SW (power), 2 IN (power), 3 CB, 4 GND (power), 5 SYNC, 6 FB (in), 7 ON/~{OFF} (in), 8 TAB

## LM2670S-ADJ
designator U?
SIMPLE SWITCHER High Efficiency 3A Step-Down Voltage Regulator with Sync; PartNumber: LM2670S-ADJ; Manufacturer: National Semiconductor; PackageTopMarking: NSUZXYTT*LM2670*S-ADJ; PowerWise: N; Published: 4-Dec-2008; DatasheetVersion: Feb-2008; PackageVersion: revE, Jul-2003; PackageReference: TS7B; Publisher: Altium Limited; PackageDescription: TO-263, Molded, .400 x .390 x .180in Body, 7 Lead, .050in Pitch, Surface Mount; CompType: Switcher; RoHS: O; PinCount: 7; DigiKeyPartNumber: LM2670S-ADJ-ND; Code_JEDEC: MO-169-AC; ComponentLink1Description: LM2670 Datasheet; ComponentLink1URL: http://www.national.com/ds/LM/LM2670.pdf; ComponentLink2Description: LM2670 Web Page; ComponentLink2URL: http://www.national.com/pf/LM/LM2670.html; ComponentLink3Description: TS7B Package Page; ComponentLink3URL: http://www.national.com/packaging/folders/ts7b.html
footprint TS7B_N (D2-PAK, 8-Leads, Body 8.6x10.2mm, Pitch 1.27mm, Lead Span 14.1mm, IPC Medium Density)
footprint TS7B_L (D2-PAK, 8-Leads, Body 8.6x10.2mm, Pitch 1.27mm, Lead Span 14.1mm, IPC High Density)
footprint TS7B_M (D2-PAK, 8-Leads, Body 8.6x10.2mm, Pitch 1.27mm, Lead Span 14.1mm, IPC Low Density)
footprint TS7B_M (D2-PAK, 8-Leads, Body 8.6x10.2mm, Pitch 1.27mm, Lead Span 14.1mm, IPC Low Density)
pins: 1 SW (power), 2 IN (power), 3 CB, 4 GND (power), 5 SYNC, 6 FB (in), 7 ON/~{OFF} (in), 8 TAB

## LM2670SD-3.3
designator U?
SIMPLE SWITCHER High Efficiency 3A Step-Down Voltage Regulator with Sync; PartNumber: LM2670SD-3.3; Manufacturer: National Semiconductor; PackageTopMarking: NS*UZXYTT*S0002NB; PowerWise: N; Published: 4-Dec-2008; DatasheetVersion: Feb-2008; PackageVersion: revA, Jul-2003; PackageReference: SRC14A; Publisher: Altium Limited; PackageDescription: LLP, Plastic, Dual, 6 x 5 x 1mm Body, 14 Lead, 0.8mm Pitch, No Pullback; CompType: Switcher; RoHS: Y; PinCount: 14; DigiKeyPartNumber: LM2670SD-3.3CT-ND; ComponentLink1Description: LM2670 Datasheet; ComponentLink1URL: http://www.national.com/ds/LM/LM2670.pdf; ComponentLink2Description: LM2670 Web Page; ComponentLink2URL: http://www.national.com/pf/LM/LM2670.html; ComponentLink3Description: SRC14A Package Page; ComponentLink3URL: http://www.national.com/packaging/folders/src14a.html
footprint SRC14A (SON, 14-Leads, Body 6x5 mm, Pitch 0.8mm, NSC Recommended)
pins: 1 NC, 2 VIN (power), 3 VIN (power), 4 CB, 5 NC, 6 SYNC, 7 FB (in), 8 ON/OFF (in), 9 GND (power), 10 NC, 11 NC, 12 VSW (power), 13 VSW (power), 14 VSW (power), 15 DAP

## LM2670SD-5.0
designator U?
SIMPLE SWITCHER High Efficiency 3A Step-Down Voltage Regulator with Sync; PartNumber: LM2670SD-5.0; Manufacturer: National Semiconductor; PackageTopMarking: NS*UZXYTT*S0002PB; PowerWise: N; Published: 4-Dec-2008; DatasheetVersion: Feb-2008; PackageVersion: revA, Jul-2003; PackageReference: SRC14A; Publisher: Altium Limited; PackageDescription: LLP, Plastic, Dual, 6 x 5 x 1mm Body, 14 Lead, 0.8mm Pitch, No Pullback; CompType: Switcher; RoHS: Y; PinCount: 14; DigiKeyPartNumber: LM2670SD-5.0CT-ND; ComponentLink1Description: LM2670 Datasheet; ComponentLink1URL: http://www.national.com/ds/LM/LM2670.pdf; ComponentLink2Description: LM2670 Web Page; ComponentLink2URL: http://www.national.com/pf/LM/LM2670.html; ComponentLink3Description: SRC14A Package Page; ComponentLink3URL: http://www.national.com/packaging/folders/src14a.html
footprint SRC14A (SON, 14-Leads, Body 6x5 mm, Pitch 0.8mm, NSC Recommended)
pins: 1 NC, 2 VIN (power), 3 VIN (power), 4 CB, 5 NC, 6 SYNC, 7 FB (in), 8 ON/OFF (in), 9 GND (power), 10 NC, 11 NC, 12 VSW (power), 13 VSW (power), 14 VSW (power), 15 DAP

## LM2670SD-12
designator U?
SIMPLE SWITCHER High Efficiency 3A Step-Down Voltage Regulator with Sync; PartNumber: LM2670SD-12; Manufacturer: National Semiconductor; PackageTopMarking: NS*UZXYTT*S0002LB; PowerWise: N; Published: 4-Dec-2008; DatasheetVersion: Feb-2008; PackageVersion: revA, Jul-2003; PackageReference: SRC14A; Publisher: Altium Limited; PackageDescription: LLP, Plastic, Dual, 6 x 5 x 1mm Body, 14 Lead, 0.8mm Pitch, No Pullback; CompType: Switcher; RoHS: Y; PinCount: 14; DigiKeyPartNumber: LM2670SD-12CT-ND; ComponentLink1Description: LM2670 Datasheet; ComponentLink1URL: http://www.national.com/ds/LM/LM2670.pdf; ComponentLink2Description: LM2670 Web Page; ComponentLink2URL: http://www.national.com/pf/LM/LM2670.html; ComponentLink3Description: SRC14A Package Page; ComponentLink3URL: http://www.national.com/packaging/folders/src14a.html
footprint SRC14A (SON, 14-Leads, Body 6x5 mm, Pitch 0.8mm, NSC Recommended)
pins: 1 NC, 2 VIN (power), 3 VIN (power), 4 CB, 5 NC, 6 SYNC, 7 FB (in), 8 ON/OFF (in), 9 GND (power), 10 NC, 11 NC, 12 VSW (power), 13 VSW (power), 14 VSW (power), 15 DAP